# EAGLE library part TPS7A1601DGNR (library My_Library_2)
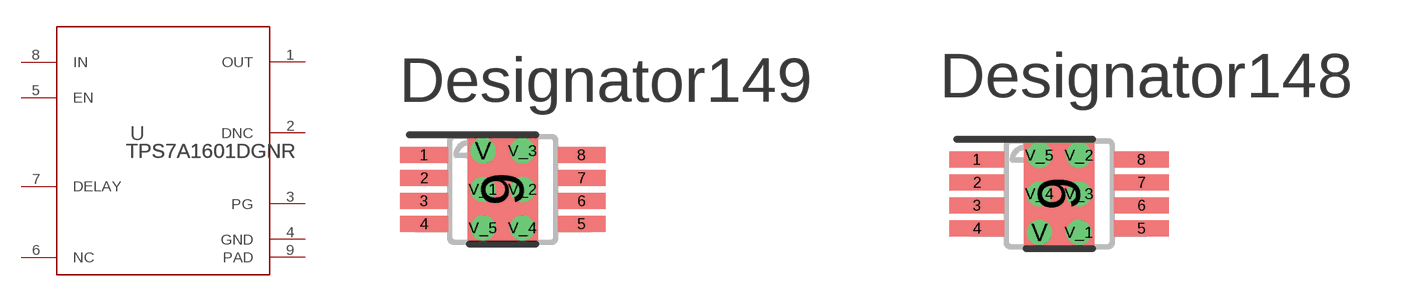
[diagram p6: symbol with the pads of DGN0008C_N; footprints DGN0008C_N, DGN0008C_M]

Designator prefix U

## TPS7A1601DGNR (COPYRIGHT: Copyright (C) 2024 Ultra Librarian. All rights reserved.; MANUFACTURER_PART_NUMBER: TPS7A1601DGNR; MFR_NAME: Texas Instruments; REFDES: RefDes; TYPE: TYPE)  [DGN0008C_N]
1  OUT  pwr
2  DNC  pas
3  PG  oc
4  GND  pwr
5  EN  in
6  NC  pas
7  DELAY  pas
8  IN  pwr
9  PAD  pwr

## TPS7A1601DGNRDGN0008C_M (COPYRIGHT: Copyright (C) 2024 Ultra Librarian. All rights reserved.; MANUFACTURER_PART_NUMBER: TPS7A1601DGNR; MFR_NAME: Texas Instruments; REFDES: RefDes; TYPE: TYPE)  [DGN0008C_M]
Pads as for DGN0008C_N

## TPS7A1601DGNRDGN0008C_L (COPYRIGHT: Copyright (C) 2024 Ultra Librarian. All rights reserved.; MANUFACTURER_PART_NUMBER: TPS7A1601DGNR; MFR_NAME: Texas Instruments; REFDES: RefDes; TYPE: TYPE)  [DGN0008C_L]
Pads as for DGN0008C_N

## Footprint DGN0008C_N (pad centres in mm)
smd 1.35 x 0.45: 1 -2.225,0.975; 2 -2.225,0.325; 3 -2.225,-0.325; 4 -2.225,-0.975; 5 2.225,-0.975; 6 2.225,-0.325; 7 2.225,0.325; 8 2.225,0.975
smd 2 x 3: 9 0,0
drill 0.203 pad 0.508: V -0.559,1.092; V_1 -0.559,0; V_2 0.559,0; V_3 0.559,1.092; V_4 0.559,-1.092; V_5 -0.559,-1.092

## Footprint DGN0008C_M (pad centres in mm)
smd 1.55 x 0.45: 1 -2.325,0.975; 2 -2.325,0.325; 3 -2.325,-0.325; 4 -2.325,-0.975; 5 2.325,-0.975; 6 2.325,-0.325; 7 2.325,0.325; 8 2.325,0.975
smd 2 x 3: 9 0,0
drill 0.203 pad 0.508: V -0.559,-1.092; V_1 0.559,-1.092; V_2 0.559,1.092; V_3 0.559,0; V_4 -0.559,0; V_5 -0.559,1.092

## Footprint DGN0008C_L (pad centres in mm)
smd 1.15 x 0.45: 1 -2.125,0.975; 2 -2.125,0.325; 3 -2.125,-0.325; 4 -2.125,-0.975; 5 2.125,-0.975; 6 2.125,-0.325; 7 2.125,0.325; 8 2.125,0.975
smd 2 x 3: 9 0,0
drill 0.203 pad 0.508: V -0.559,1.092; V_1 -0.559,0; V_2 0.559,0; V_3 0.559,1.092; V_4 0.559,-1.092; V_5 -0.559,-1.092